# Altium footprint library QFN,DFN.PcbLib: 2 footprints
Each footprint in its own frame and in the unit in brackets; x right, y up, seen from the top. Pads: shape width x height; smd on the part's side, far side on the other; paste and mask are expansions set on the pad; w line width, h text height; cw(c..) or ccw(c..) is an arc to the next point about the centre after c.
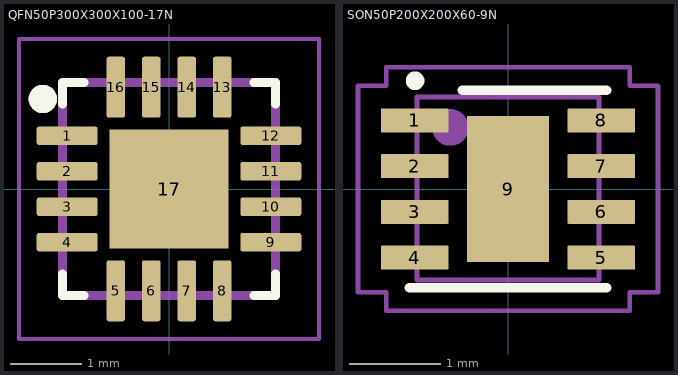
[diagram p0: the footprints below, top view; thin cyan lines are the x and y axes]

## QFN50P300X300X100-17N [mm]
pads (17):
  rrect25% 0.86x0.26 smd mask+0.051: 1(-1.435,0.75) 2(-1.435,0.25) 3(-1.435,-0.25) 4(-1.435,-0.75) 9(1.435,-0.75) 10(1.435,-0.25) 11(1.435,0.25) 12(1.435,0.75)
  rrect25% 0.26x0.86 smd mask+0.051: 5(-0.75,-1.435) 6(-0.25,-1.435) 7(0.25,-1.435) 8(0.75,-1.435) 13(0.75,1.435) 14(0.25,1.435) 15(-0.25,1.435) 16(-0.75,1.435)
  rect 1.68x1.68 smd paste-0.31 mask+0.051: 17(0,0)
Top Overlay:
  circle w0.2: c-1.778,1.27 r0.1
  lines w0.127: -1.5,-1.2 -1.5,-1.5 -1.2,-1.5 ; -1.5,1.2 -1.5,1.5 -1.2,1.5 ; 1.2,-1.5 1.5,-1.5 1.5,-1.2 ; 1.2,1.5 1.5,1.5 1.5,1.2
Mechanical 13:
  circle w0.2: c-1.778,1.27 r0.1
  lines w0.127: -1.5,-1.5 -1.5,1.5 1.5,1.5 1.5,-1.5 -1.5,-1.5
Mechanical 15:
  lines w0.05: -2.115,-2.115 -2.115,2.115 2.115,2.115 2.115,-2.115 -2.115,-2.115
3D body "step_temp.STEP": height 1, standoff 0, extent -1.5,-1.5 1.5,1.5

## SON50P200X200X60-9N [mm]
pads (9):
  rrect7% 0.74x0.26 smd mask+0.051: 1(-1.02,0.75) 2(-1.02,0.25) 3(-1.02,-0.25) 4(-1.02,-0.75) 5(1.02,-0.75) 6(1.02,-0.25) 7(1.02,0.25) 8(1.02,0.75)
  rect 0.9x1.6 smd mask+0.051: 9(0,0)
Top Overlay:
  circle w0.152: c-1.016,1.184 r0.025
  lines w0.1: -1.08,-1.08 1.08,-1.08 ; -0.5,1.08 1.08,1.08
Mechanical 13:
  circle w0.2: c-0.63,0.673 r0.1
  lines w0.051: -0.996,-0.996 0.996,-0.996 0.996,1.006 -0.996,1.006 -0.996,-0.996
Mechanical 15:
  lines w0.05: -1.64,-1.13 -1.64,1.13 -1.33,1.13 -1.33,1.33 1.33,1.33 1.33,1.13 1.64,1.13 1.64,-1.13 1.33,-1.13 1.33,-1.33 -1.33,-1.33 -1.33,-1.13 -1.64,-1.13
3D body "step_temp.STEP": height 0.6, standoff 0, extent -1,-1 1,1